# EAGLE library part XC3SE*PQ208 (library Xilinx_Spartan3e)
Spartan-3E FPGA Low-cost Field Programmable Gate Array. Check the datasheet for more information.
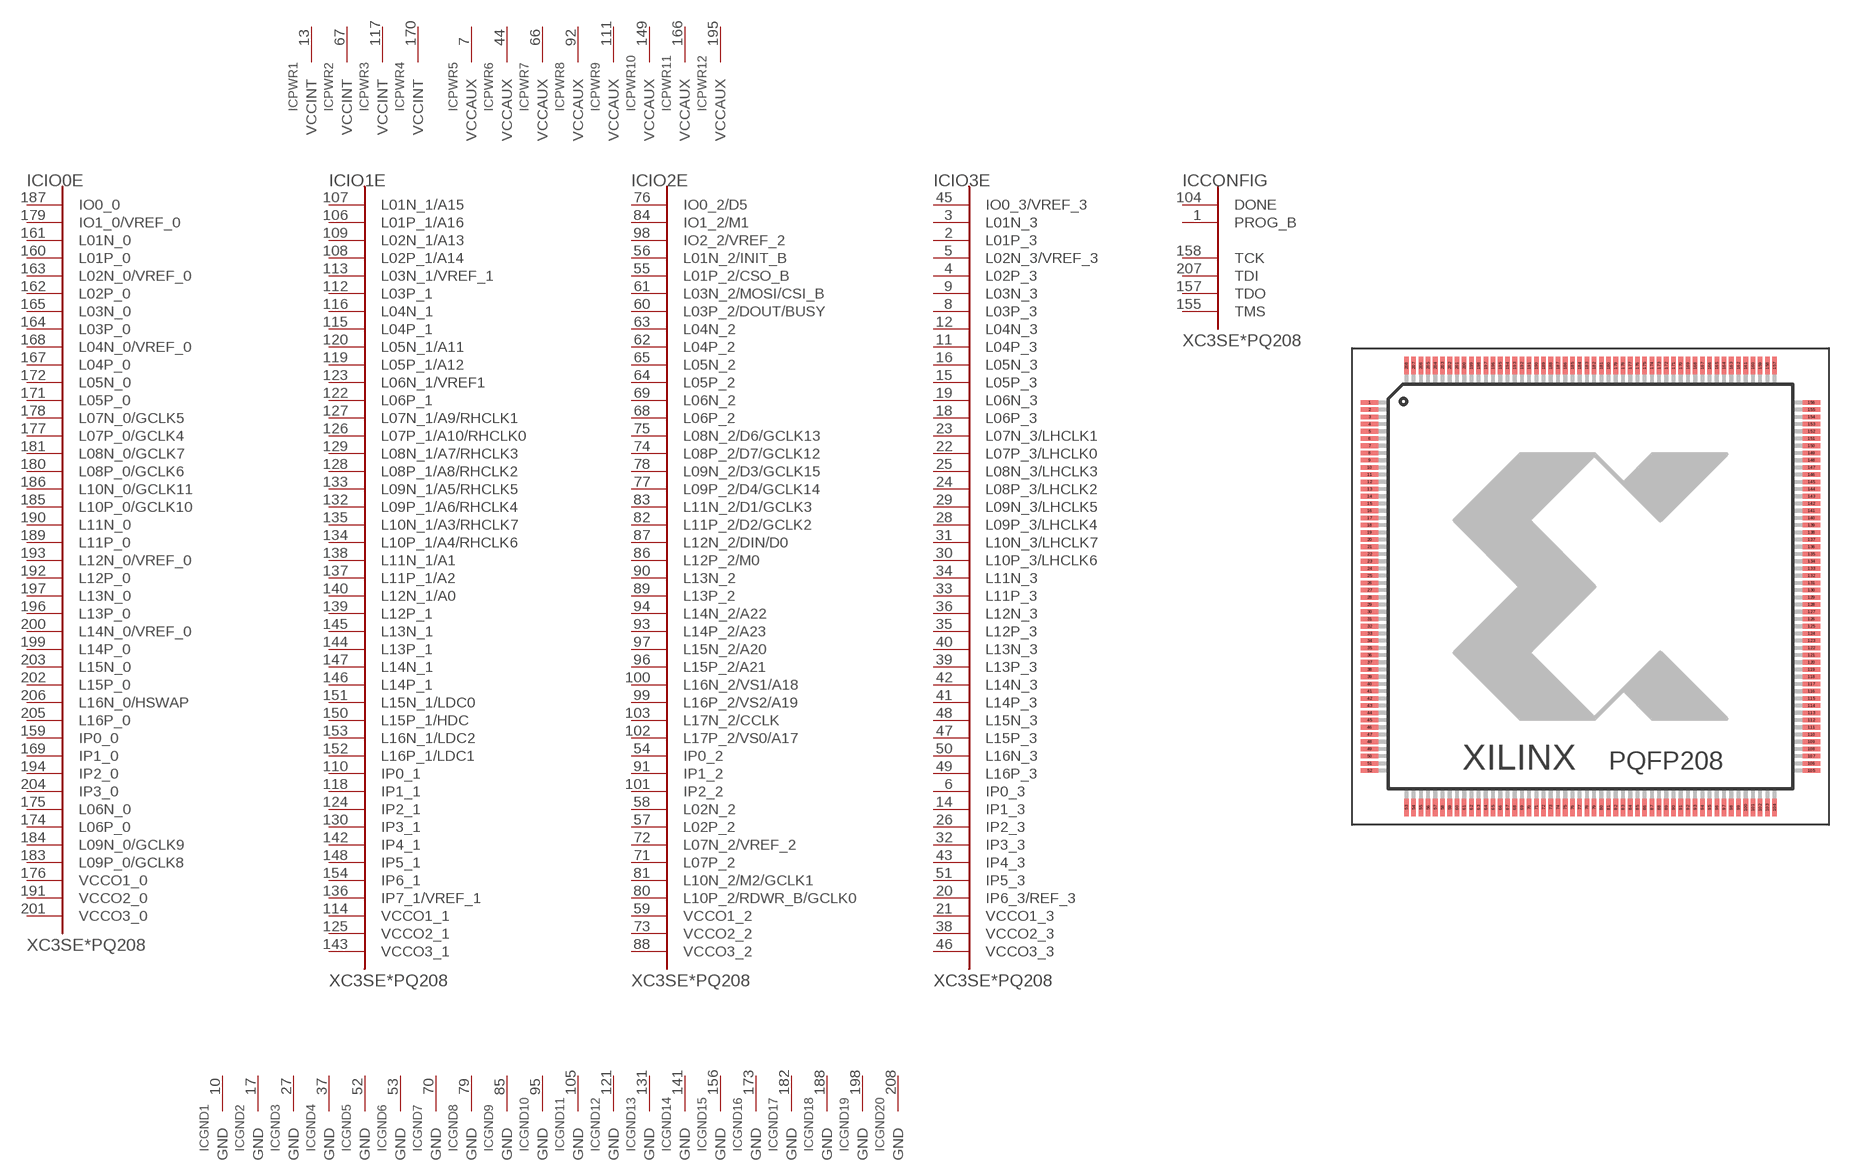
[diagram p0: symbol with the pads of PQ208; footprint PQ208]

Designator prefix IC; gates IO0E=IO0E_PQ208 IO1E=IO1E_PQ208 IO2E=IO2E_PQ208 IO3E=IO3E_PQ208 PWR1=VCCINT-1 PWR2=VCCINT-1 PWR3=VCCINT-1 PWR4=VCCINT-1 PWR5=VCCAUX-1 PWR6=VCCAUX-1 PWR7=VCCAUX-1 PWR8=VCCAUX-1 PWR9=VCCAUX-1 PWR10=VCCAUX-1 PWR11=VCCAUX-1 PWR12=VCCAUX-1 GND1=GND-1 GND2=GND-1 GND3=GND-1 GND4=GND-1 GND5=GND-1 GND6=GND-1 GND7=GND-1 GND8=GND-1 GND9=GND-1 GND10=GND-1 GND11=GND-1 GND12=GND-1 GND13=GND-1 GND14=GND-1 GND15=GND-1 GND16=GND-1 GND17=GND-1 GND18=GND-1 GND19=GND-1 GND20=GND-1 CONFIG=CONFIG-1

## XC3SE250-4PQ208, XC3SE250-5PQ208, XC3SE500-4PQ208, XC3SE500-5PQ208  [PQ208]
1  CONFIG:PROG_B  in
2  IO3E:L01P_3
3  IO3E:L01N_3
4  IO3E:L02P_3
5  IO3E:L02N_3/VREF_3
6  IO3E:IP0_3  in
7  PWR5:VCCAUX  pwr
8  IO3E:L03P_3
9  IO3E:L03N_3
10  GND1:GND  pwr
11  IO3E:L04P_3
12  IO3E:L04N_3
13  PWR1:VCCINT  pwr
14  IO3E:IP1_3  in
15  IO3E:L05P_3
16  IO3E:L05N_3
17  GND2:GND  pwr
18  IO3E:L06P_3
19  IO3E:L06N_3
20  IO3E:IP6_3/REF_3  in
21  IO3E:VCCO1_3  pwr
22  IO3E:L07P_3/LHCLK0
23  IO3E:L07N_3/LHCLK1
24  IO3E:L08P_3/LHCLK2
25  IO3E:L08N_3/LHCLK3
26  IO3E:IP2_3  in
27  GND3:GND  pwr
28  IO3E:L09P_3/LHCLK4
29  IO3E:L09N_3/LHCLK5
30  IO3E:L10P_3/LHCLK6
31  IO3E:L10N_3/LHCLK7
32  IO3E:IP3_3  in
33  IO3E:L11P_3
34  IO3E:L11N_3
35  IO3E:L12P_3
36  IO3E:L12N_3
37  GND4:GND  pwr
38  IO3E:VCCO2_3  pwr
39  IO3E:L13P_3
40  IO3E:L13N_3
41  IO3E:L14P_3
42  IO3E:L14N_3
43  IO3E:IP4_3  in
44  PWR6:VCCAUX  pwr
45  IO3E:IO0_3/VREF_3
46  IO3E:VCCO3_3  pwr
47  IO3E:L15P_3
48  IO3E:L15N_3
49  IO3E:L16P_3
50  IO3E:L16N_3
51  IO3E:IP5_3  in
52  GND5:GND  pwr
53  GND6:GND  pwr
54  IO2E:IP0_2  in
55  IO2E:L01P_2/CSO_B
56  IO2E:L01N_2/INIT_B
57  IO2E:L02P_2  in
58  IO2E:L02N_2  in
59  IO2E:VCCO1_2  pwr
60  IO2E:L03P_2/DOUT/BUSY
61  IO2E:L03N_2/MOSI/CSI_B
62  IO2E:L04P_2
63  IO2E:L04N_2
64  IO2E:L05P_2
65  IO2E:L05N_2
66  PWR7:VCCAUX  pwr
67  PWR2:VCCINT  pwr
68  IO2E:L06P_2
69  IO2E:L06N_2
70  GND7:GND  pwr
71  IO2E:L07P_2  in
72  IO2E:L07N_2/VREF_2  in
73  IO2E:VCCO2_2  pwr
74  IO2E:L08P_2/D7/GCLK12
75  IO2E:L08N_2/D6/GCLK13
76  IO2E:IO0_2/D5
77  IO2E:L09P_2/D4/GCLK14
78  IO2E:L09N_2/D3/GCLK15
79  GND8:GND  pwr
80  IO2E:L10P_2/RDWR_B/GCLK0  in
81  IO2E:L10N_2/M2/GCLK1  in
82  IO2E:L11P_2/D2/GCLK2
83  IO2E:L11N_2/D1/GCLK3
84  IO2E:IO1_2/M1
85  GND9:GND  pwr
86  IO2E:L12P_2/M0
87  IO2E:L12N_2/DIN/D0
88  IO2E:VCCO3_2  pwr
89  IO2E:L13P_2
90  IO2E:L13N_2
91  IO2E:IP1_2  in
92  PWR8:VCCAUX  pwr
93  IO2E:L14P_2/A23
94  IO2E:L14N_2/A22
95  GND10:GND  pwr
96  IO2E:L15P_2/A21
97  IO2E:L15N_2/A20
98  IO2E:IO2_2/VREF_2
99  IO2E:L16P_2/VS2/A19
100  IO2E:L16N_2/VS1/A18
101  IO2E:IP2_2  in
102  IO2E:L17P_2/VS0/A17
103  IO2E:L17N_2/CCLK
104  CONFIG:DONE
105  GND11:GND  pwr
106  IO1E:L01P_1/A16
107  IO1E:L01N_1/A15
108  IO1E:L02P_1/A14
109  IO1E:L02N_1/A13
110  IO1E:IP0_1  in
111  PWR9:VCCAUX  pwr
112  IO1E:L03P_1
113  IO1E:L03N_1/VREF_1
114  IO1E:VCCO1_1  pwr
115  IO1E:L04P_1
116  IO1E:L04N_1
117  PWR3:VCCINT  pwr
118  IO1E:IP1_1  in
119  IO1E:L05P_1/A12
120  IO1E:L05N_1/A11
121  GND12:GND  pwr
122  IO1E:L06P_1
123  IO1E:L06N_1/VREF1
124  IO1E:IP2_1  in
125  IO1E:VCCO2_1  pwr
126  IO1E:L07P_1/A10/RHCLK0
127  IO1E:L07N_1/A9/RHCLK1
128  IO1E:L08P_1/A8/RHCLK2
129  IO1E:L08N_1/A7/RHCLK3
130  IO1E:IP3_1  in
131  GND13:GND  pwr
132  IO1E:L09P_1/A6/RHCLK4
133  IO1E:L09N_1/A5/RHCLK5
134  IO1E:L10P_1/A4/RHCLK6
135  IO1E:L10N_1/A3/RHCLK7
136  IO1E:IP7_1/VREF_1  in
137  IO1E:L11P_1/A2
138  IO1E:L11N_1/A1
139  IO1E:L12P_1
140  IO1E:L12N_1/A0
141  GND14:GND  pwr
142  IO1E:IP4_1  in
143  IO1E:VCCO3_1  pwr
144  IO1E:L13P_1
145  IO1E:L13N_1
146  IO1E:L14P_1
147  IO1E:L14N_1
148  IO1E:IP5_1  in
149  PWR10:VCCAUX  pwr
150  IO1E:L15P_1/HDC
151  IO1E:L15N_1/LDC0
152  IO1E:L16P_1/LDC1
153  IO1E:L16N_1/LDC2
154  IO1E:IP6_1  in
155  CONFIG:TMS  in
156  GND15:GND  pwr
157  CONFIG:TDO
158  CONFIG:TCK  in
159  IO0E:IP0_0  in
160  IO0E:L01P_0
161  IO0E:L01N_0
162  IO0E:L02P_0
163  IO0E:L02N_0/VREF_0
164  IO0E:L03P_0
165  IO0E:L03N_0
166  PWR11:VCCAUX  pwr
167  IO0E:L04P_0
168  IO0E:L04N_0/VREF_0
169  IO0E:IP1_0  in
170  PWR4:VCCINT  pwr
171  IO0E:L05P_0
172  IO0E:L05N_0
173  GND16:GND  pwr
174  IO0E:L06P_0  in
175  IO0E:L06N_0  in
176  IO0E:VCCO1_0  pwr
177  IO0E:L07P_0/GCLK4
178  IO0E:L07N_0/GCLK5
179  IO0E:IO1_0/VREF_0
180  IO0E:L08P_0/GCLK6
181  IO0E:L08N_0/GCLK7
182  GND17:GND  pwr
183  IO0E:L09P_0/GCLK8  in
184  IO0E:L09N_0/GCLK9  in
185  IO0E:L10P_0/GCLK10
186  IO0E:L10N_0/GCLK11
187  IO0E:IO0_0
188  GND18:GND  pwr
189  IO0E:L11P_0
190  IO0E:L11N_0
191  IO0E:VCCO2_0  pwr
192  IO0E:L12P_0
193  IO0E:L12N_0/VREF_0
194  IO0E:IP2_0  in
195  PWR12:VCCAUX  pwr
196  IO0E:L13P_0
197  IO0E:L13N_0
198  GND19:GND  pwr
199  IO0E:L14P_0
200  IO0E:L14N_0/VREF_0
201  IO0E:VCCO3_0  pwr
202  IO0E:L15P_0
203  IO0E:L15N_0
204  IO0E:IP3_0  in
205  IO0E:L16P_0
206  IO0E:L16N_0/HSWAP
207  CONFIG:TDI  in
208  GND20:GND  pwr

## Footprint PQ208 (pad centres in mm)
Plastic Quad Flat Pack
smd 1.2 x 0.32: 1 -15.3,12.75; 2 -15.3,12.25; 3 -15.3,11.75; 4 -15.3,11.25; 5 -15.3,10.75; 6 -15.3,10.25; 7 -15.3,9.75; 8 -15.3,9.25; 9 -15.3,8.75; 10 -15.3,8.25; 11 -15.3,7.75; 12 -15.3,7.25; 13 -15.3,6.75; 14 -15.3,6.25; 15 -15.3,5.75; 16 -15.3,5.25; 17 -15.3,4.75; 18 -15.3,4.25; 19 -15.3,3.75; 20 -15.3,3.25; 21 -15.3,2.75; 22 -15.3,2.25; 23 -15.3,1.75; 24 -15.3,1.25; 25 -15.3,0.75; 26 -15.3,0.25; 27 -15.3,-0.25; 28 -15.3,-0.75; 29 -15.3,-1.25; 30 -15.3,-1.75; 31 -15.3,-2.25; 32 -15.3,-2.75; 33 -15.3,-3.25; 34 -15.3,-3.75; 35 -15.3,-4.25; 36 -15.3,-4.75; 37 -15.3,-5.25; 38 -15.3,-5.75; 39 -15.3,-6.25; 40 -15.3,-6.75; 41 -15.3,-7.25; 42 -15.3,-7.75; 43 -15.3,-8.25; 44 -15.3,-8.75; 45 -15.3,-9.25; 46 -15.3,-9.75; 47 -15.3,-10.25; 48 -15.3,-10.75; 49 -15.3,-11.25; 50 -15.3,-11.75; 51 -15.3,-12.25; 52 -15.3,-12.75; 105 15.3,-12.75; 106 15.3,-12.25; 107 15.3,-11.75; 108 15.3,-11.25; 109 15.3,-10.75; 110 15.3,-10.25; 111 15.3,-9.75; 112 15.3,-9.25; 113 15.3,-8.75; 114 15.3,-8.25; 115 15.3,-7.75; 116 15.3,-7.25; 117 15.3,-6.75; 118 15.3,-6.25; 119 15.3,-5.75; 120 15.3,-5.25; 121 15.3,-4.75; 122 15.3,-4.25; 123 15.3,-3.75; 124 15.3,-3.25; 125 15.3,-2.75; 126 15.3,-2.25; 127 15.3,-1.75; 128 15.3,-1.25; 129 15.3,-0.75; 130 15.3,-0.25; 131 15.3,0.25; 132 15.3,0.75; 133 15.3,1.25; 134 15.3,1.75; 135 15.3,2.25; 136 15.3,2.75; 137 15.3,3.25; 138 15.3,3.75; 139 15.3,4.25; 140 15.3,4.75; 141 15.3,5.25; 142 15.3,5.75; 143 15.3,6.25; 144 15.3,6.75; 145 15.3,7.25; 146 15.3,7.75; 147 15.3,8.25; 148 15.3,8.75; 149 15.3,9.25; 150 15.3,9.75; 151 15.3,10.25; 152 15.3,10.75; 153 15.3,11.25; 154 15.3,11.75; 155 15.3,12.25; 156 15.3,12.75
smd 0.32 x 1.2: 53 -12.75,-15.3; 54 -12.25,-15.3; 55 -11.75,-15.3; 56 -11.25,-15.3; 57 -10.75,-15.3; 58 -10.25,-15.3; 59 -9.75,-15.3; 60 -9.25,-15.3; 61 -8.75,-15.3; 62 -8.25,-15.3; 63 -7.75,-15.3; 64 -7.25,-15.3; 65 -6.75,-15.3; 66 -6.25,-15.3; 67 -5.75,-15.3; 68 -5.25,-15.3; 69 -4.75,-15.3; 70 -4.25,-15.3; 71 -3.75,-15.3; 72 -3.25,-15.3; 73 -2.75,-15.3; 74 -2.25,-15.3; 75 -1.75,-15.3; 76 -1.25,-15.3; 77 -0.75,-15.3; 78 -0.25,-15.3; 79 0.25,-15.3; 80 0.75,-15.3; 81 1.25,-15.3; 82 1.75,-15.3; 83 2.25,-15.3; 84 2.75,-15.3; 85 3.25,-15.3; 86 3.75,-15.3; 87 4.25,-15.3; 88 4.75,-15.3; 89 5.25,-15.3; 90 5.75,-15.3; 91 6.25,-15.3; 92 6.75,-15.3; 93 7.25,-15.3; 94 7.75,-15.3; 95 8.25,-15.3; 96 8.75,-15.3; 97 9.25,-15.3; 98 9.75,-15.3; 99 10.25,-15.3; 100 10.75,-15.3; 101 11.25,-15.3; 102 11.75,-15.3; 103 12.25,-15.3; 104 12.75,-15.3; 157 12.75,15.3; 158 12.25,15.3; 159 11.75,15.3; 160 11.25,15.3; 161 10.75,15.3; 162 10.25,15.3; 163 9.75,15.3; 164 9.25,15.3; 165 8.75,15.3; 166 8.25,15.3; 167 7.75,15.3; 168 7.25,15.3; 169 6.75,15.3; 170 6.25,15.3; 171 5.75,15.3; 172 5.25,15.3; 173 4.75,15.3; 174 4.25,15.3; 175 3.75,15.3; 176 3.25,15.3; 177 2.75,15.3; 178 2.25,15.3; 179 1.75,15.3; 180 1.25,15.3; 181 0.75,15.3; 182 0.25,15.3; 183 -0.25,15.3; 184 -0.75,15.3; 185 -1.25,15.3; 186 -1.75,15.3; 187 -2.25,15.3; 188 -2.75,15.3; 189 -3.25,15.3; 190 -3.75,15.3; 191 -4.25,15.3; 192 -4.75,15.3; 193 -5.25,15.3; 194 -5.75,15.3; 195 -6.25,15.3; 196 -6.75,15.3; 197 -7.25,15.3; 198 -7.75,15.3; 199 -8.25,15.3; 200 -8.75,15.3; 201 -9.25,15.3; 202 -9.75,15.3; 203 -10.25,15.3; 204 -10.75,15.3; 205 -11.25,15.3; 206 -11.75,15.3; 207 -12.25,15.3; 208 -12.75,15.3